# Altium footprint library GX12L-4.PcbLib: 1 footprints
Each footprint in its own frame and in the unit in brackets; x right, y up, seen from the top. Pads: shape width x height; smd on the part's side, far side on the other; paste and mask are expansions set on the pad; w line width, h text height; cw(c..) or ccw(c..) is an arc to the next point about the centre after c.
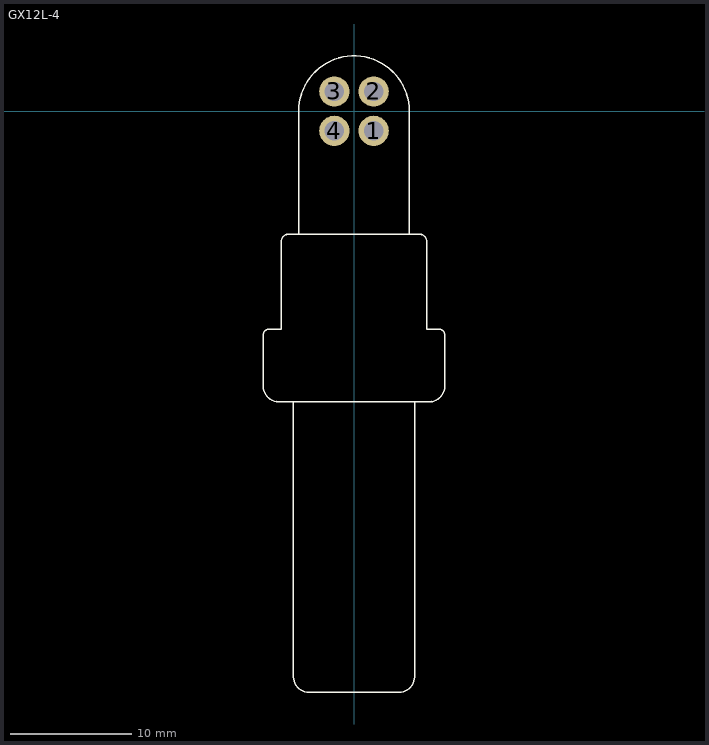
[diagram p0: the footprint, top view; thin cyan lines are the x and y axes]

## GX12L-4 [mm]
pads (4):
  round 2.5 hole 1.6: 1(1.626,-1.626) 2(1.626,1.626) 3(-1.626,1.626) 4(-1.626,-1.626)
Top Overlay:
  lines w0.127: -5,-24 -5,-46.73 ccw(c-3.73,-46.73) -3.73,-48 3.73,-48 ccw(c3.73,-46.73) 5,-46.73 5,-24 ; 6.5,-24 -6.23,-24 ; -7.5,-22.73 ccw(c-6.23,-22.73) -6.23,-24 ; -7.5,-22.73 ccw(c-6.23,-22.73) -6.23,-24 ; -7.5,-22.73 -7.5,-18.5 cw(c-7,-18.5) -7,-18 -6,-18 -6,-10.759 cw(c-5.401,-10.759) -5.401,-10.16 -4.572,-10.16 ; -4.572,-10.16 4.572,-10.16 ; -4.572,-10.16 -4.572,0 cw(c0,0) 4.572,0 4.572,-10.16 ; -4.572,-10.16 4.572,-10.16 ; 4.572,-10.16 5.401,-10.16 cw(c5.401,-10.759) 6,-10.759 6,-18 7,-18 cw(c7,-18.5) 7.5,-18.5 7.5,-22.73 ; 7.5,-22.73 cw(c6.23,-22.73) 6.23,-24 ccw(c6.23,-22.73) 7.5,-22.73